# Altium schematic symbol library LEDRGBW.Schlib: 1 symbol
Pins are listed as number, name and electrical type; pins without a type are passive.

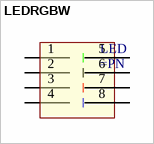
[diagram p0: symbol LEDRGBW]

## LEDRGBW
designator LED
LED RGBW Power 1x4W
pins: 1, 2, 3, 4, 5, 6, 7, 8